# EAGLE library part 74LVC241A (library BERGCloud-OSH)
NXP <http://nxp.com> 74LVC241A Octal buffer/line driver with 5 V tolerant inputs/outputs; 3-state. TSSOP20 = 74LVC241APW Created by AH. BERG Cloud <http://www.bergcloud.com>
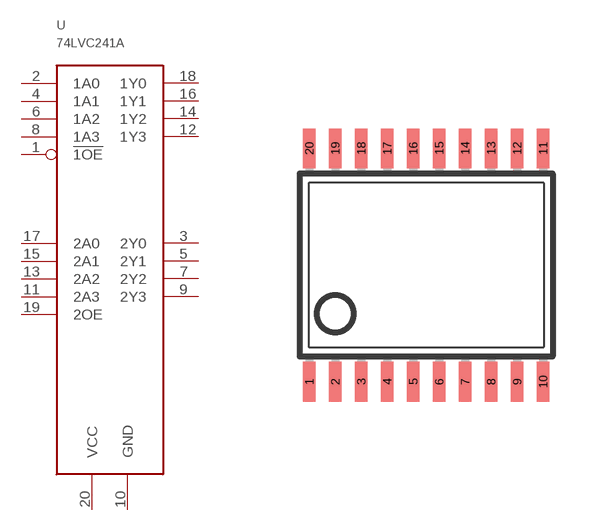
[diagram p7: symbol with the pads of TSSOP20; footprint TSSOP20]

Designator prefix -

## 74LVC241APW  [TSSOP20]
1  !1OE  in
2  1A0
3  2Y0
4  1A1
5  2Y1
6  1A2
7  2Y2
8  1A3
9  2Y3
10  GND
11  2A3
12  1Y3
13  2A2
14  1Y2
15  2A1
16  1Y1
17  2A0
18  1Y0
19  2OE  in
20  VCC

## Footprint TSSOP20 (pad centres in mm)
Thin Shrink Small Outline Plastic 20 MAX3223-MAX3243.pdf
smd 0.305 x 0.991: 1 -2.925,-2.918; 2 -2.275,-2.918; 3 -1.625,-2.918; 4 -0.975,-2.918; 5 -0.325,-2.918; 6 0.325,-2.918; 7 0.975,-2.918; 8 1.625,-2.918; 9 2.275,-2.918; 10 2.925,-2.918; 11 2.925,2.918; 12 2.275,2.918; 13 1.625,2.918; 14 0.975,2.918; 15 0.325,2.918; 16 -0.325,2.918; 17 -0.975,2.918; 18 -1.625,2.918; 19 -2.275,2.918; 20 -2.925,2.918